# Altium footprint library GRM188R60J226MEA0D.PcbLib: 3 footprints
Each footprint in its own frame and in the unit in brackets; x right, y up, seen from the top. Pads: shape width x height; smd on the part's side, far side on the other; paste and mask are expansions set on the pad; w line width, h text height; cw(c..) or ccw(c..) is an arc to the next point about the centre after c.
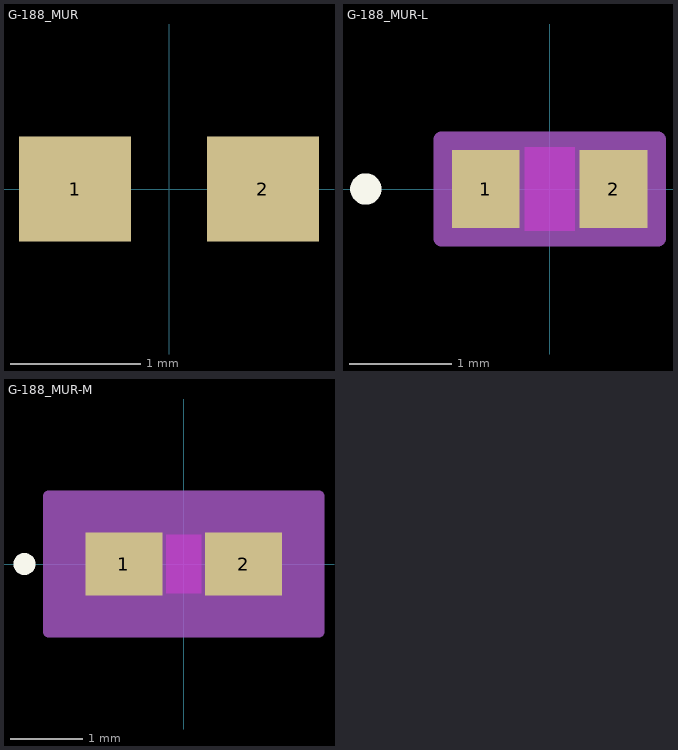
[diagram p0: the footprints below, top view; thin cyan lines are the x and y axes]

## G-188_MUR [mil]
pads (2):
  rect 34x32 smd paste+0 mask+0: 1(-28.5,0) 2(28.5,0)
Top Overlay:
  text ".Designator" at -137.5,-25 h50
Mechanical 13:
  text ".Designator" at -137.5,-25 h50

## G-188_MUR-L [mil]
pads (2):
  rect 26x30 smd paste+0 mask+0: 1(-24.5,0) 2(24.5,0)
Top Layer keep-out:
  region: -9.5,-14 -9.5,14 9.5,14 9.5,-14
Top Overlay:
  circle w6: c-70.5,0 r3
  text ".Designator" at -137.5,-25 h50
Keep-Out Layer:
  region: -9.5,-16 -9.5,16 9.5,16 9.5,-16
Mechanical 13:
  circle w1: c-19.5,0 r3
  lines w1: -31.5,-16 -31.5,16 ; -31.5,-16 31.5,-16 ; -31.5,-16 -11.5,-16 -11.5,16 -31.5,16 ; -31.5,-16 -31.5,16 ; -31.5,16 31.5,16 ; 31.5,-16 31.5,16 ; 31.5,-16 31.5,16 ; 31.5,-16 11.5,-16 11.5,16 31.5,16
  text ".Designator" at -137.5,-25 h50
Mechanical 15:
  region: 41.5,-19 -41.5,-19 -41.5,19 41.5,19
  lines w6: -41.5,-19 41.5,-19 41.5,19 -41.5,19 -41.5,-19
3D body "G-188_MUR.step": height 35, standoff 0, extent -31.5,-15.98 31.5,15.98

## G-188_MUR-M [mil]
pads (2):
  rect 42x34 smd paste+0 mask+0: 1(-32.5,0) 2(32.5,0)
Top Layer keep-out:
  region: -9.5,-14 -9.5,14 9.5,14 9.5,-14
Top Overlay:
  circle w6: c-86.5,0 r3
  text ".Designator" at -137.5,-25 h50
Keep-Out Layer:
  region: -9.5,-16 -9.5,16 9.5,16 9.5,-16
Mechanical 13:
  circle w1: c-27.5,0 r3
  lines w1: -31.5,-16 -31.5,16 ; -31.5,-16 -11.5,-16 -11.5,16 -31.5,16 ; -31.5,-16 31.5,-16 ; -31.5,-16 -31.5,16 ; -31.5,16 31.5,16 ; 31.5,-16 11.5,-16 11.5,16 31.5,16 ; 31.5,-16 31.5,16 ; 31.5,-16 31.5,16
  text ".Designator" at -137.5,-25 h50
Mechanical 15:
  region: 73.5,-37 -73.5,-37 -73.5,37 73.5,37
  lines w6: -73.5,-37 -73.5,37 73.5,37 73.5,-37 -73.5,-37
3D body "G-188_MUR.step": height 35, standoff 0, extent -31.5,-15.98 31.5,15.98